# Altium footprint library 7X2.PcbLib: 1 footprints
Each footprint in its own frame and in the unit in brackets; x right, y up, seen from the top. Pads: shape width x height; smd on the part's side, far side on the other; paste and mask are expansions set on the pad; w line width, h text height; cw(c..) or ccw(c..) is an arc to the next point about the centre after c.
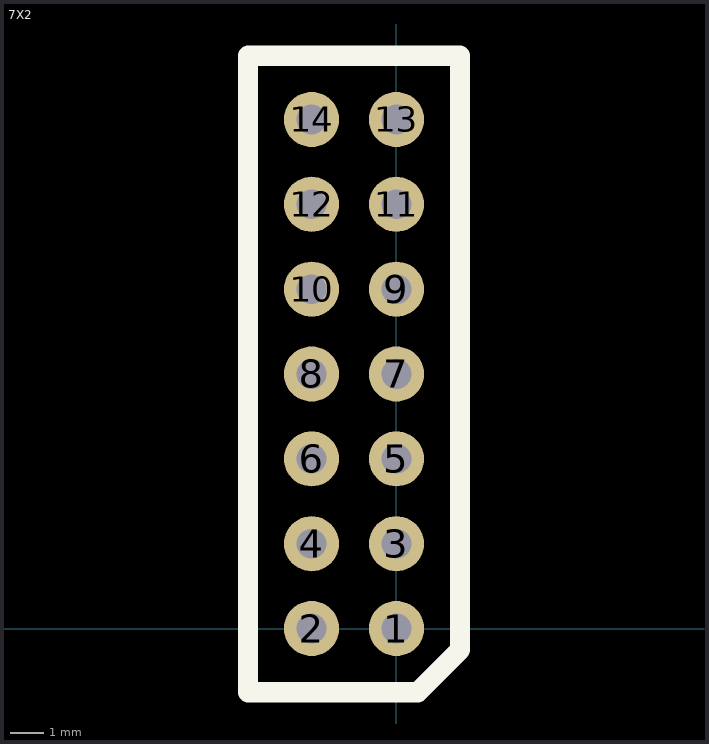
[diagram p0: the footprint, top view; thin cyan lines are the x and y axes]

## 7X2 [mil]
height 390
pads (14):
  round 65 hole 35: 1(0,0) 2(-100,0) 3(0,100) 4(-100,100) 5(0,200) 6(-100,200) 7(0,300) 8(-100,300) 9(0,400) 10(-100,400) 11(0,500) 12(-100,500) 13(0,600) 14(-100,600)
Top Overlay:
  lines w24: -175,-75 0,-75 25,-75 75,-25 75,675 -175,675 -175,-75
  text "." at 75,-75 h60
Mechanical 4:
  text ".465" at 0,0 h1